# Altium footprint library L4.PcbLib: 7 footprints
Each footprint in its own frame and in the unit in brackets; x right, y up, seen from the top. Pads: shape width x height; smd on the part's side, far side on the other; paste and mask are expansions set on the pad; w line width, h text height; cw(c..) or ccw(c..) is an arc to the next point about the centre after c.
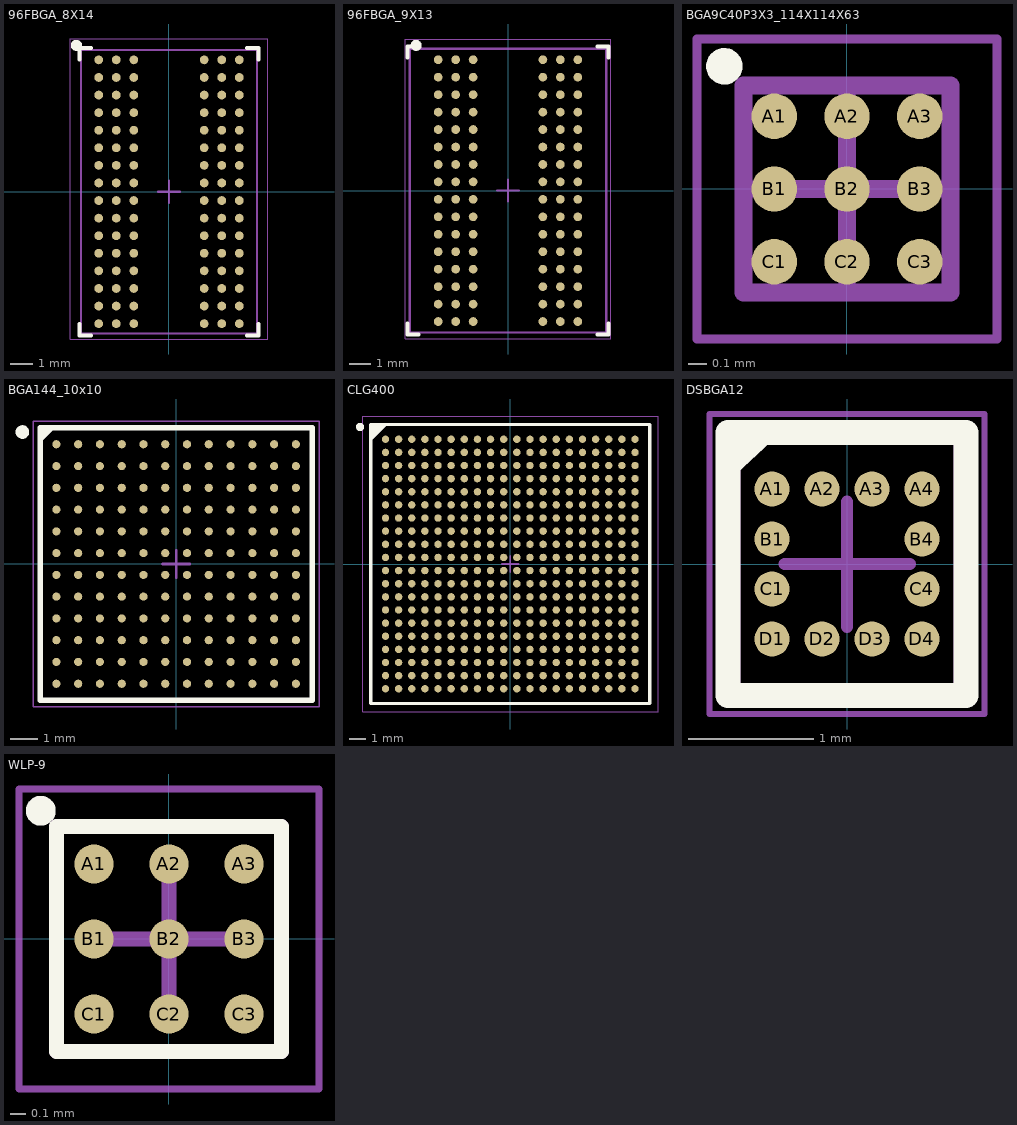
[diagram p0: the footprints below, top view; thin cyan lines are the x and y axes]

## 96FBGA_8X14 [mm] "BGA, 78-Balls, Body 8x10.5mm, Pitch 0.8mm"
pads (96):
  round 0.4 smd: A1(-3.2,6) A2(-2.4,6) A3(-1.6,6) A7(1.6,6) A8(2.4,6) A9(3.2,6) B1(-3.2,5.2) B2(-2.4,5.2) B3(-1.6,5.2) B7(1.6,5.2) B8(2.4,5.2) B9(3.2,5.2) C1(-3.2,4.4) C2(-2.4,4.4) C3(-1.6,4.4) C7(1.6,4.4) C8(2.4,4.4) C9(3.2,4.4) D1(-3.2,3.6) D2(-2.4,3.6) D3(-1.6,3.6) D7(1.6,3.6) D8(2.4,3.6) D9(3.2,3.6) E1(-3.2,2.8) E2(-2.4,2.8) E3(-1.6,2.8) E7(1.6,2.8) E8(2.4,2.8) E9(3.2,2.8) F1(-3.2,2) F2(-2.4,2) F3(-1.6,2) F7(1.6,2) F8(2.4,2) F9(3.2,2) G1(-3.2,1.2) G2(-2.4,1.2) G3(-1.6,1.2) G7(1.6,1.2) G8(2.4,1.2) G9(3.2,1.2) H1(-3.2,0.4) H2(-2.4,0.4) H3(-1.6,0.4) H7(1.6,0.4) H8(2.4,0.4) H9(3.2,0.4) J1(-3.2,-0.4) J2(-2.4,-0.4) J3(-1.6,-0.4) J7(1.6,-0.4) J8(2.4,-0.4) J9(3.2,-0.4) K1(-3.2,-1.2) K2(-2.4,-1.2) K3(-1.6,-1.2) K7(1.6,-1.2) K8(2.4,-1.2) K9(3.2,-1.2) L1(-3.2,-2) L2(-2.4,-2) L3(-1.6,-2) L7(1.6,-2) L8(2.4,-2) L9(3.2,-2) M1(-3.2,-2.8) M2(-2.4,-2.8) M3(-1.6,-2.8) M7(1.6,-2.8) M8(2.4,-2.8) M9(3.2,-2.8) N1(-3.2,-3.6) N2(-2.4,-3.6) N3(-1.6,-3.6) N7(1.6,-3.6) N8(2.4,-3.6) N9(3.2,-3.6) P1(-3.2,-4.4) P2(-2.4,-4.4) P3(-1.6,-4.4) P7(1.6,-4.4) P8(2.4,-4.4) P9(3.2,-4.4) R1(-3.2,-5.2) R2(-2.4,-5.2) R3(-1.6,-5.2) R7(1.6,-5.2) R8(2.4,-5.2) R9(3.2,-5.2) T1(-3.2,-6) T2(-2.4,-6) T3(-1.6,-6) T7(1.6,-6) T8(2.4,-6) T9(3.2,-6)
Top Overlay:
  circle w0.25: c-4.21,6.66 r0.125
  lines w0.178: -4.064,-6.026 -4.064,-6.534 -3.556,-6.534 ; -4.064,6.026 -4.064,6.534 -3.556,6.534 ; 3.556,-6.534 4.064,-6.534 4.064,-6.026 ; 3.556,6.534 4.064,6.534 4.064,6.026
Mechanical 13:
  lines w0.1: -4,-6.45 4,-6.45 4,6.45 -4,6.45 -4,-6.45
Mechanical 15:
  lines w0.05: -4.5,-6.7 -4.5,6.95 4.5,6.95 4.5,-6.7 -4.5,-6.7
  lines w0.1: -0.5,0 0.5,0 ; 0,-0.5 0,0.5
Mechanical 17:
  text "'.Designator'" at -3.6,-0.4 h0.64
3D body: height 0.38, standoff -0.02, extent -1.799,-6.197 -1.4,-5.803
3D body: height 0.38, standoff -0.02, extent -2.599,-6.197 -2.2,-5.803
3D body: height 0.38, standoff -0.02, extent -3.399,-6.197 -3,-5.803
3D body: height 0.38, standoff -0.02, extent 1.401,-6.197 1.8,-5.803
3D body: height 0.38, standoff -0.02, extent 2.201,-6.197 2.6,-5.803
3D body: height 0.38, standoff -0.02, extent 3.001,-6.197 3.4,-5.803
3D body: height 0.38, standoff -0.02, extent -1.799,-5.397 -1.4,-5.003
3D body: height 0.38, standoff -0.02, extent -2.599,-5.397 -2.2,-5.003
3D body: height 0.38, standoff -0.02, extent -3.399,-5.397 -3,-5.003
3D body: height 0.38, standoff -0.02, extent 1.401,-5.397 1.8,-5.003
3D body: height 0.38, standoff -0.02, extent 2.201,-5.397 2.6,-5.003
3D body: height 0.38, standoff -0.02, extent 3.001,-5.397 3.4,-5.003
3D body: height 0.38, standoff -0.02, extent -1.799,-4.597 -1.4,-4.203
3D body: height 0.38, standoff -0.02, extent -2.599,-4.597 -2.2,-4.203
3D body: height 0.38, standoff -0.02, extent -3.399,-4.597 -3,-4.203
3D body: height 0.38, standoff -0.02, extent 1.401,-4.597 1.8,-4.203
3D body: height 0.38, standoff -0.02, extent 2.201,-4.597 2.6,-4.203
3D body: height 0.38, standoff -0.02, extent 3.001,-4.597 3.4,-4.203
3D body: height 0.38, standoff -0.02, extent 3.001,-3.797 3.4,-3.403
3D body: height 0.38, standoff -0.02, extent 2.201,-3.797 2.6,-3.403
3D body: height 0.38, standoff -0.02, extent 1.401,-3.797 1.8,-3.403
3D body: height 0.38, standoff -0.02, extent -3.399,-3.797 -3,-3.403
3D body: height 0.38, standoff -0.02, extent -2.599,-3.797 -2.2,-3.403
3D body: height 0.38, standoff -0.02, extent -1.799,-3.797 -1.4,-3.403
3D body: height 0.38, standoff -0.02, extent 3.001,-2.997 3.4,-2.603
3D body: height 0.38, standoff -0.02, extent 2.201,-2.997 2.6,-2.603
3D body: height 0.38, standoff -0.02, extent 1.401,-2.997 1.8,-2.603
3D body: height 0.38, standoff -0.02, extent -3.399,-2.997 -3,-2.603
3D body: height 0.38, standoff -0.02, extent -2.599,-2.997 -2.2,-2.603
3D body: height 0.38, standoff -0.02, extent -1.799,-2.997 -1.4,-2.603
3D body: height 0.38, standoff -0.02, extent 3.001,-2.197 3.4,-1.803
3D body: height 0.38, standoff -0.02, extent 2.201,-2.197 2.6,-1.803
3D body: height 0.38, standoff -0.02, extent 1.401,-2.197 1.8,-1.803
3D body: height 0.38, standoff -0.02, extent -3.399,-2.197 -3,-1.803
3D body: height 0.38, standoff -0.02, extent -2.599,-2.197 -2.2,-1.803
3D body: height 0.38, standoff -0.02, extent -1.799,-2.197 -1.4,-1.803
3D body: height 0.38, standoff -0.02, extent 3.001,-1.397 3.4,-1.003
3D body: height 0.38, standoff -0.02, extent 2.201,-1.397 2.6,-1.003
3D body: height 0.38, standoff -0.02, extent 1.401,-1.397 1.8,-1.003
3D body: height 0.38, standoff -0.02, extent -3.399,-1.397 -3,-1.003
3D body: height 0.38, standoff -0.02, extent -2.599,-1.397 -2.2,-1.003
3D body: height 0.38, standoff -0.02, extent -1.799,-1.397 -1.4,-1.003
3D body: height 0.38, standoff -0.02, extent 3.001,5.803 3.4,6.197
3D body: height 0.38, standoff -0.02, extent 2.201,5.803 2.6,6.197
3D body: height 0.38, standoff -0.02, extent 1.401,5.803 1.8,6.197
3D body: height 0.38, standoff -0.02, extent -3.399,5.803 -3,6.197
3D body: height 0.38, standoff -0.02, extent -2.599,5.803 -2.2,6.197
3D body: height 0.38, standoff -0.02, extent -1.799,5.803 -1.4,6.197
3D body: height 0.38, standoff -0.02, extent -1.799,5.003 -1.4,5.397
3D body: height 0.38, standoff -0.02, extent -2.599,5.003 -2.2,5.397
3D body: height 0.38, standoff -0.02, extent -3.399,5.003 -3,5.397
3D body: height 0.38, standoff -0.02, extent 1.401,5.003 1.8,5.397
3D body: height 0.38, standoff -0.02, extent 2.201,5.003 2.6,5.397
3D body: height 0.38, standoff -0.02, extent 3.001,5.003 3.4,5.397
3D body: height 0.38, standoff -0.02, extent -1.799,4.203 -1.4,4.597
3D body: height 0.38, standoff -0.02, extent -2.599,4.203 -2.2,4.597
3D body: height 0.38, standoff -0.02, extent -3.399,4.203 -3,4.597
3D body: height 0.38, standoff -0.02, extent 1.401,4.203 1.8,4.597
3D body: height 0.38, standoff -0.02, extent 2.201,4.203 2.6,4.597
3D body: height 0.38, standoff -0.02, extent 3.001,4.203 3.4,4.597
3D body: height 0.38, standoff -0.02, extent -1.799,3.403 -1.4,3.797
3D body: height 0.38, standoff -0.02, extent -2.599,3.403 -2.2,3.797
3D body: height 0.38, standoff -0.02, extent -3.399,3.403 -3,3.797
3D body: height 0.38, standoff -0.02, extent 1.401,3.403 1.8,3.797
3D body: height 0.38, standoff -0.02, extent 2.201,3.403 2.6,3.797
3D body: height 0.38, standoff -0.02, extent 3.001,3.403 3.4,3.797
3D body: height 0.38, standoff -0.02, extent -1.799,2.603 -1.4,2.997
3D body: height 0.38, standoff -0.02, extent -2.599,2.603 -2.2,2.997
3D body: height 0.38, standoff -0.02, extent -3.399,2.603 -3,2.997
3D body: height 0.38, standoff -0.02, extent 1.401,2.603 1.8,2.997
3D body: height 0.38, standoff -0.02, extent 2.201,2.603 2.6,2.997
3D body: height 0.38, standoff -0.02, extent 3.001,2.603 3.4,2.997
3D body: height 0.38, standoff -0.02, extent -1.799,1.803 -1.4,2.197
3D body: height 0.38, standoff -0.02, extent -2.599,1.803 -2.2,2.197
3D body: height 0.38, standoff -0.02, extent -3.399,1.803 -3,2.197
3D body: height 0.38, standoff -0.02, extent 1.401,1.803 1.8,2.197
3D body: height 0.38, standoff -0.02, extent 2.201,1.803 2.6,2.197
3D body: height 0.38, standoff -0.02, extent 3.001,1.803 3.4,2.197
3D body: height 0.38, standoff -0.02, extent -1.799,1.003 -1.4,1.397
3D body: height 0.38, standoff -0.02, extent -2.599,1.003 -2.2,1.397
3D body: height 0.38, standoff -0.02, extent -3.399,1.003 -3,1.397
3D body: height 0.38, standoff -0.02, extent 1.401,1.003 1.8,1.397
3D body: height 0.38, standoff -0.02, extent 2.201,1.003 2.6,1.397
3D body: height 0.38, standoff -0.02, extent 3.001,1.003 3.4,1.397
3D body: height 0.38, standoff -0.02, extent -1.799,0.203 -1.4,0.597
3D body: height 0.38, standoff -0.02, extent -2.599,0.203 -2.2,0.597
3D body: height 0.38, standoff -0.02, extent -3.399,0.203 -3,0.597
3D body: height 0.38, standoff -0.02, extent 1.401,0.203 1.8,0.597
3D body: height 0.38, standoff -0.02, extent 2.201,0.203 2.6,0.597
3D body: height 0.38, standoff -0.02, extent 3.001,0.203 3.4,0.597
3D body: height 0.38, standoff -0.02, extent -1.799,-0.597 -1.4,-0.203
3D body: height 0.38, standoff -0.02, extent -2.599,-0.597 -2.2,-0.203
3D body: height 0.38, standoff -0.02, extent -3.399,-0.597 -3,-0.203
3D body: height 0.38, standoff -0.02, extent 1.401,-0.597 1.8,-0.203
3D body: height 0.38, standoff -0.02, extent 2.201,-0.597 2.6,-0.203
3D body: height 0.38, standoff -0.02, extent 3.001,-0.597 3.4,-0.203
3D body: height 1.1, standoff 0.34, extent -4,-6.45 4,6.45

## 96FBGA_9X13 [mm] "BGA, 78-Balls, Body 8x10.5mm, Pitch 0.8mm"
pads (96):
  round 0.4 smd: A1(-3.2,6) A2(-2.4,6) A3(-1.6,6) A7(1.6,6) A8(2.4,6) A9(3.2,6) B1(-3.2,5.2) B2(-2.4,5.2) B3(-1.6,5.2) B7(1.6,5.2) B8(2.4,5.2) B9(3.2,5.2) C1(-3.2,4.4) C2(-2.4,4.4) C3(-1.6,4.4) C7(1.6,4.4) C8(2.4,4.4) C9(3.2,4.4) D1(-3.2,3.6) D2(-2.4,3.6) D3(-1.6,3.6) D7(1.6,3.6) D8(2.4,3.6) D9(3.2,3.6) E1(-3.2,2.8) E2(-2.4,2.8) E3(-1.6,2.8) E7(1.6,2.8) E8(2.4,2.8) E9(3.2,2.8) F1(-3.2,2) F2(-2.4,2) F3(-1.6,2) F7(1.6,2) F8(2.4,2) F9(3.2,2) G1(-3.2,1.2) G2(-2.4,1.2) G3(-1.6,1.2) G7(1.6,1.2) G8(2.4,1.2) G9(3.2,1.2) H1(-3.2,0.4) H2(-2.4,0.4) H3(-1.6,0.4) H7(1.6,0.4) H8(2.4,0.4) H9(3.2,0.4) J1(-3.2,-0.4) J2(-2.4,-0.4) J3(-1.6,-0.4) J7(1.6,-0.4) J8(2.4,-0.4) J9(3.2,-0.4) K1(-3.2,-1.2) K2(-2.4,-1.2) K3(-1.6,-1.2) K7(1.6,-1.2) K8(2.4,-1.2) K9(3.2,-1.2) L1(-3.2,-2) L2(-2.4,-2) L3(-1.6,-2) L7(1.6,-2) L8(2.4,-2) L9(3.2,-2) M1(-3.2,-2.8) M2(-2.4,-2.8) M3(-1.6,-2.8) M7(1.6,-2.8) M8(2.4,-2.8) M9(3.2,-2.8) N1(-3.2,-3.6) N2(-2.4,-3.6) N3(-1.6,-3.6) N7(1.6,-3.6) N8(2.4,-3.6) N9(3.2,-3.6) P1(-3.2,-4.4) P2(-2.4,-4.4) P3(-1.6,-4.4) P7(1.6,-4.4) P8(2.4,-4.4) P9(3.2,-4.4) R1(-3.2,-5.2) R2(-2.4,-5.2) R3(-1.6,-5.2) R7(1.6,-5.2) R8(2.4,-5.2) R9(3.2,-5.2) T1(-3.2,-6) T2(-2.4,-6) T3(-1.6,-6) T7(1.6,-6) T8(2.4,-6) T9(3.2,-6)
Top Overlay:
  circle w0.25: c-4.21,6.66 r0.125
  lines w0.178: -4.6,-6.092 -4.6,-6.6 -4.092,-6.6 ; -4.6,6.092 -4.6,6.6 -4.092,6.6 ; 4.092,-6.6 4.6,-6.6 4.6,-6.092 ; 4.092,6.6 4.6,6.6 4.6,6.092
Mechanical 13:
  lines w0.1: -4.5,-6.5 -4.5,6.5 4.5,6.5 4.5,-6.5 -4.5,-6.5
Mechanical 15:
  lines w0.05: -4.7,-6.8 -4.7,6.95 4.7,6.95 4.7,-6.8 -4.7,-6.8
  lines w0.1: -0.5,0 0.5,0 ; 0,-0.5 0,0.5
Mechanical 17:
  text "'.Designator'" at -3.6,-0.4 h0.64
Mechanical 19:
  text "'.Comment'" at -3.15,-0.4 h0.64
3D body: height 0.38, standoff -0.02, extent -1.799,-6.197 -1.4,-5.803
3D body: height 0.38, standoff -0.02, extent -2.599,-6.197 -2.2,-5.803
3D body: height 0.38, standoff -0.02, extent -3.399,-6.197 -3,-5.803
3D body: height 0.38, standoff -0.02, extent 1.401,-6.197 1.8,-5.803
3D body: height 0.38, standoff -0.02, extent 2.201,-6.197 2.6,-5.803
3D body: height 0.38, standoff -0.02, extent 3.001,-6.197 3.4,-5.803
3D body: height 0.38, standoff -0.02, extent -1.799,-5.397 -1.4,-5.003
3D body: height 0.38, standoff -0.02, extent -2.599,-5.397 -2.2,-5.003
3D body: height 0.38, standoff -0.02, extent -3.399,-5.397 -3,-5.003
3D body: height 0.38, standoff -0.02, extent 1.401,-5.397 1.8,-5.003
3D body: height 0.38, standoff -0.02, extent 2.201,-5.397 2.6,-5.003
3D body: height 0.38, standoff -0.02, extent 3.001,-5.397 3.4,-5.003
3D body: height 0.38, standoff -0.02, extent -1.799,-4.597 -1.4,-4.203
3D body: height 0.38, standoff -0.02, extent -2.599,-4.597 -2.2,-4.203
3D body: height 0.38, standoff -0.02, extent -3.399,-4.597 -3,-4.203
3D body: height 0.38, standoff -0.02, extent 1.401,-4.597 1.8,-4.203
3D body: height 0.38, standoff -0.02, extent 2.201,-4.597 2.6,-4.203
3D body: height 0.38, standoff -0.02, extent 3.001,-4.597 3.4,-4.203
3D body: height 0.38, standoff -0.02, extent 3.001,-3.797 3.4,-3.403
3D body: height 0.38, standoff -0.02, extent 2.201,-3.797 2.6,-3.403
3D body: height 0.38, standoff -0.02, extent 1.401,-3.797 1.8,-3.403
3D body: height 0.38, standoff -0.02, extent -3.399,-3.797 -3,-3.403
3D body: height 0.38, standoff -0.02, extent -2.599,-3.797 -2.2,-3.403
3D body: height 0.38, standoff -0.02, extent -1.799,-3.797 -1.4,-3.403
3D body: height 0.38, standoff -0.02, extent 3.001,-2.997 3.4,-2.603
3D body: height 0.38, standoff -0.02, extent 2.201,-2.997 2.6,-2.603
3D body: height 0.38, standoff -0.02, extent 1.401,-2.997 1.8,-2.603
3D body: height 0.38, standoff -0.02, extent -3.399,-2.997 -3,-2.603
3D body: height 0.38, standoff -0.02, extent -2.599,-2.997 -2.2,-2.603
3D body: height 0.38, standoff -0.02, extent -1.799,-2.997 -1.4,-2.603
3D body: height 0.38, standoff -0.02, extent 3.001,-2.197 3.4,-1.803
3D body: height 0.38, standoff -0.02, extent 2.201,-2.197 2.6,-1.803
3D body: height 0.38, standoff -0.02, extent 1.401,-2.197 1.8,-1.803
3D body: height 0.38, standoff -0.02, extent -3.399,-2.197 -3,-1.803
3D body: height 0.38, standoff -0.02, extent -2.599,-2.197 -2.2,-1.803
3D body: height 0.38, standoff -0.02, extent -1.799,-2.197 -1.4,-1.803
3D body: height 0.38, standoff -0.02, extent 3.001,-1.397 3.4,-1.003
3D body: height 0.38, standoff -0.02, extent 2.201,-1.397 2.6,-1.003
3D body: height 0.38, standoff -0.02, extent 1.401,-1.397 1.8,-1.003
3D body: height 0.38, standoff -0.02, extent -3.399,-1.397 -3,-1.003
3D body: height 0.38, standoff -0.02, extent -2.599,-1.397 -2.2,-1.003
3D body: height 0.38, standoff -0.02, extent -1.799,-1.397 -1.4,-1.003
3D body: height 0.38, standoff -0.02, extent 3.001,5.803 3.4,6.197
3D body: height 0.38, standoff -0.02, extent 2.201,5.803 2.6,6.197
3D body: height 0.38, standoff -0.02, extent 1.401,5.803 1.8,6.197
3D body: height 0.38, standoff -0.02, extent -3.399,5.803 -3,6.197
3D body: height 0.38, standoff -0.02, extent -2.599,5.803 -2.2,6.197
3D body: height 0.38, standoff -0.02, extent -1.799,5.803 -1.4,6.197
3D body: height 0.38, standoff -0.02, extent -1.799,5.003 -1.4,5.397
3D body: height 0.38, standoff -0.02, extent -2.599,5.003 -2.2,5.397
3D body: height 0.38, standoff -0.02, extent -3.399,5.003 -3,5.397
3D body: height 0.38, standoff -0.02, extent 1.401,5.003 1.8,5.397
3D body: height 0.38, standoff -0.02, extent 2.201,5.003 2.6,5.397
3D body: height 0.38, standoff -0.02, extent 3.001,5.003 3.4,5.397
3D body: height 0.38, standoff -0.02, extent -1.799,4.203 -1.4,4.597
3D body: height 0.38, standoff -0.02, extent -2.599,4.203 -2.2,4.597
3D body: height 0.38, standoff -0.02, extent -3.399,4.203 -3,4.597
3D body: height 0.38, standoff -0.02, extent 1.401,4.203 1.8,4.597
3D body: height 0.38, standoff -0.02, extent 2.201,4.203 2.6,4.597
3D body: height 0.38, standoff -0.02, extent 3.001,4.203 3.4,4.597
3D body: height 0.38, standoff -0.02, extent -1.799,3.403 -1.4,3.797
3D body: height 0.38, standoff -0.02, extent -2.599,3.403 -2.2,3.797
3D body: height 0.38, standoff -0.02, extent -3.399,3.403 -3,3.797
3D body: height 0.38, standoff -0.02, extent 1.401,3.403 1.8,3.797
3D body: height 0.38, standoff -0.02, extent 2.201,3.403 2.6,3.797
3D body: height 0.38, standoff -0.02, extent 3.001,3.403 3.4,3.797
3D body: height 0.38, standoff -0.02, extent -1.799,2.603 -1.4,2.997
3D body: height 0.38, standoff -0.02, extent -2.599,2.603 -2.2,2.997
3D body: height 0.38, standoff -0.02, extent -3.399,2.603 -3,2.997
3D body: height 0.38, standoff -0.02, extent 1.401,2.603 1.8,2.997
3D body: height 0.38, standoff -0.02, extent 2.201,2.603 2.6,2.997
3D body: height 0.38, standoff -0.02, extent 3.001,2.603 3.4,2.997
3D body: height 0.38, standoff -0.02, extent -1.799,1.803 -1.4,2.197
3D body: height 0.38, standoff -0.02, extent -2.599,1.803 -2.2,2.197
3D body: height 0.38, standoff -0.02, extent -3.399,1.803 -3,2.197
3D body: height 0.38, standoff -0.02, extent 1.401,1.803 1.8,2.197
3D body: height 0.38, standoff -0.02, extent 2.201,1.803 2.6,2.197
3D body: height 0.38, standoff -0.02, extent 3.001,1.803 3.4,2.197
3D body: height 0.38, standoff -0.02, extent -1.799,1.003 -1.4,1.397
3D body: height 0.38, standoff -0.02, extent -2.599,1.003 -2.2,1.397
3D body: height 0.38, standoff -0.02, extent -3.399,1.003 -3,1.397
3D body: height 0.38, standoff -0.02, extent 1.401,1.003 1.8,1.397
3D body: height 0.38, standoff -0.02, extent 2.201,1.003 2.6,1.397
3D body: height 0.38, standoff -0.02, extent 3.001,1.003 3.4,1.397
3D body: height 0.38, standoff -0.02, extent -1.799,0.203 -1.4,0.597
3D body: height 0.38, standoff -0.02, extent -2.599,0.203 -2.2,0.597
3D body: height 0.38, standoff -0.02, extent -3.399,0.203 -3,0.597
3D body: height 0.38, standoff -0.02, extent 1.401,0.203 1.8,0.597
3D body: height 0.38, standoff -0.02, extent 2.201,0.203 2.6,0.597
3D body: height 0.38, standoff -0.02, extent 3.001,0.203 3.4,0.597
3D body: height 0.38, standoff -0.02, extent -1.799,-0.597 -1.4,-0.203
3D body: height 0.38, standoff -0.02, extent -2.599,-0.597 -2.2,-0.203
3D body: height 0.38, standoff -0.02, extent -3.399,-0.597 -3,-0.203
3D body: height 0.38, standoff -0.02, extent 1.401,-0.597 1.8,-0.203
3D body: height 0.38, standoff -0.02, extent 2.201,-0.597 2.6,-0.203
3D body: height 0.38, standoff -0.02, extent 3.001,-0.597 3.4,-0.203
3D body "User Library-BGA96C80P9X16_900X1300X120.step": height 1.2, standoff 0, extent -4.5,-6.5 4.5,6.5

## BGA9C40P3X3_114X114X63 [mm] "BGA, 9-Leads, Body 1.14x1.14mmx0.63mm, Pitch 0.40mm WLCSP9"
height 0.63
pads (9):
  round 0.25 smd mask+0.05: A1(-0.4,0.4) A2(0,0.4) A3(0.4,0.4) B1(-0.4,0) B2(0,0) B3(0.4,0) C1(-0.4,-0.4) C2(0,-0.4) C3(0.4,-0.4)
Top Overlay:
  circle w0.1: c-0.675,0.675 r0.05
Mechanical 2:
  lines w0.1: -0.57,-0.57 0.57,-0.57 0.57,0.57 -0.57,0.57 -0.57,-0.57
Mechanical 4:
  lines w0.05: -0.825,-0.825 0.825,-0.825 0.825,0.825 -0.825,0.825 -0.825,-0.825
  lines w0.1: -0.5,0 0.5,0 ; 0,-0.5 0,0.5
3D body "BGA9C40P3X3_114X114X63.step": height 0.61, standoff -0.02, extent -0.57,-0.57 0.57,0.57

## BGA144_10x10 [mm] "BGA, 144-Leads, Body 10,00x10,00mmx1,70mm, Pitch 0,80mm"
height 1.7
pads (144):
  round 0.3 smd: A1(-4.4,4.4) A2(-3.6,4.4) A3(-2.8,4.4) A4(-2,4.4) A5(-1.2,4.4) A6(-0.4,4.4) A7(0.4,4.4) A8(1.2,4.4) A9(2,4.4) A10(2.8,4.4) A11(3.6,4.4) A12(4.4,4.4) B1(-4.4,3.6) B2(-3.6,3.6) B3(-2.8,3.6) B4(-2,3.6) B5(-1.2,3.6) B6(-0.4,3.6) B7(0.4,3.6) B8(1.2,3.6) B9(2,3.6) B10(2.8,3.6) B11(3.6,3.6) B12(4.4,3.6) C1(-4.4,2.8) C2(-3.6,2.8) C3(-2.8,2.8) C4(-2,2.8) C5(-1.2,2.8) C6(-0.4,2.8) C7(0.4,2.8) C8(1.2,2.8) C9(2,2.8) C10(2.8,2.8) C11(3.6,2.8) C12(4.4,2.8) D1(-4.4,2) D2(-3.6,2) D3(-2.8,2) D4(-2,2) D5(-1.2,2) D6(-0.4,2) D7(0.4,2) D8(1.2,2) D9(2,2) D10(2.8,2) D11(3.6,2) D12(4.4,2) E1(-4.4,1.2) E2(-3.6,1.2) E3(-2.8,1.2) E4(-2,1.2) E5(-1.2,1.2) E6(-0.4,1.2) E7(0.4,1.2) E8(1.2,1.2) E9(2,1.2) E10(2.8,1.2) E11(3.6,1.2) E12(4.4,1.2) F1(-4.4,0.4) F2(-3.6,0.4) F3(-2.8,0.4) F4(-2,0.4) F5(-1.2,0.4) F6(-0.4,0.4) F7(0.4,0.4) F8(1.2,0.4) F9(2,0.4) F10(2.8,0.4) F11(3.6,0.4) F12(4.4,0.4) G1(-4.4,-0.4) G2(-3.6,-0.4) G3(-2.8,-0.4) G4(-2,-0.4) G5(-1.2,-0.4) G6(-0.4,-0.4) G7(0.4,-0.4) G8(1.2,-0.4) G9(2,-0.4) G10(2.8,-0.4) G11(3.6,-0.4) G12(4.4,-0.4) H1(-4.4,-1.2) H2(-3.6,-1.2) H3(-2.8,-1.2) H4(-2,-1.2) H5(-1.2,-1.2) H6(-0.4,-1.2) H7(0.4,-1.2) H8(1.2,-1.2) H9(2,-1.2) H10(2.8,-1.2) H11(3.6,-1.2) H12(4.4,-1.2) J1(-4.4,-2) J2(-3.6,-2) J3(-2.8,-2) J4(-2,-2) J5(-1.2,-2) J6(-0.4,-2) J7(0.4,-2) J8(1.2,-2) J9(2,-2) J10(2.8,-2) J11(3.6,-2) J12(4.4,-2) K1(-4.4,-2.8) K2(-3.6,-2.8) K3(-2.8,-2.8) K4(-2,-2.8) K5(-1.2,-2.8) K6(-0.4,-2.8) K7(0.4,-2.8) K8(1.2,-2.8) K9(2,-2.8) K10(2.8,-2.8) K11(3.6,-2.8) K12(4.4,-2.8) L1(-4.4,-3.6) L2(-3.6,-3.6) L3(-2.8,-3.6) L4(-2,-3.6) L5(-1.2,-3.6) L6(-0.4,-3.6) L7(0.4,-3.6) L8(1.2,-3.6) L9(2,-3.6) L10(2.8,-3.6) L11(3.6,-3.6) L12(4.4,-3.6) M1(-4.4,-4.4) M2(-3.6,-4.4) M3(-2.8,-4.4) M4(-2,-4.4) M5(-1.2,-4.4) M6(-0.4,-4.4) M7(0.4,-4.4) M8(1.2,-4.4) M9(2,-4.4) M10(2.8,-4.4) M11(3.6,-4.4) M12(4.4,-4.4)
Top Overlay:
  circle w0.25: c-5.65,4.85 r0.125
  region: -4.578,5 -5,4.578 -5,5
  lines w0.2: -5,4.578 -4.578,5 ; -5,-5 5,-5 5,5 -5,5 -5,-5
Mechanical 13:
  lines w0.1: -5,-5 5,-5 5,5 -5,5 -5,-5
Mechanical 15:
  lines w0.05: -5.25,-5.25 5.25,-5.25 5.25,5.25 -5.25,5.25 -5.25,-5.25
  lines w0.1: -0.5,0 0.5,0 ; 0,-0.5 0,0.5
3D body "User Library-BGA 144.step": height 1.22, standoff -0.03, extent -5,-5 5,5

## CLG400 [mm] "BGA, 400-Balls, Body 17x17mm, Pitch 0.8mm"
height 1.6
pads (400):
  round 0.45 smd: A1(-7.6,7.6) A2(-6.8,7.6) A3(-6,7.6) A4(-5.2,7.6) A5(-4.4,7.6) A6(-3.6,7.6) A7(-2.8,7.6) A8(-2,7.6) A9(-1.2,7.6) A10(-0.4,7.6) A11(0.4,7.6) A12(1.2,7.6) A13(2,7.6) A14(2.8,7.6) A15(3.6,7.6) A16(4.4,7.6) A17(5.2,7.6) A18(6,7.6) A19(6.8,7.6) A20(7.6,7.6) B1(-7.6,6.8) B2(-6.8,6.8) B3(-6,6.8) B4(-5.2,6.8) B5(-4.4,6.8) B6(-3.6,6.8) B7(-2.8,6.8) B8(-2,6.8) B9(-1.2,6.8) B10(-0.4,6.8) B11(0.4,6.8) B12(1.2,6.8) B13(2,6.8) B14(2.8,6.8) B15(3.6,6.8) B16(4.4,6.8) B17(5.2,6.8) B18(6,6.8) B19(6.8,6.8) B20(7.6,6.8) C1(-7.6,6) C2(-6.8,6) C3(-6,6) C4(-5.2,6) C5(-4.4,6) C6(-3.6,6) C7(-2.8,6) C8(-2,6) C9(-1.2,6) C10(-0.4,6) C11(0.4,6) C12(1.2,6) C13(2,6) C14(2.8,6) C15(3.6,6) C16(4.4,6) C17(5.2,6) C18(6,6) C19(6.8,6) C20(7.6,6) D1(-7.6,5.2) D2(-6.8,5.2) D3(-6,5.2) D4(-5.2,5.2) D5(-4.4,5.2) D6(-3.6,5.2) D7(-2.8,5.2) D8(-2,5.2) D9(-1.2,5.2) D10(-0.4,5.2) D11(0.4,5.2) D12(1.2,5.2) D13(2,5.2) D14(2.8,5.2) D15(3.6,5.2) D16(4.4,5.2) D17(5.2,5.2) D18(6,5.2) D19(6.8,5.2) D20(7.6,5.2) E1(-7.6,4.4) E2(-6.8,4.4) E3(-6,4.4) E4(-5.2,4.4) E5(-4.4,4.4) E6(-3.6,4.4) E7(-2.8,4.4) E8(-2,4.4) E9(-1.2,4.4) E10(-0.4,4.4) E11(0.4,4.4) E12(1.2,4.4) E13(2,4.4) E14(2.8,4.4) E15(3.6,4.4) E16(4.4,4.4) E17(5.2,4.4) E18(6,4.4) E19(6.8,4.4) E20(7.6,4.4) F1(-7.6,3.6) F2(-6.8,3.6) F3(-6,3.6) F4(-5.2,3.6) F5(-4.4,3.6) F6(-3.6,3.6) F7(-2.8,3.6) F8(-2,3.6) F9(-1.2,3.6) F10(-0.4,3.6) F11(0.4,3.6) F12(1.2,3.6) F13(2,3.6) F14(2.8,3.6) F15(3.6,3.6) F16(4.4,3.6) F17(5.2,3.6) F18(6,3.6) F19(6.8,3.6) F20(7.6,3.6) G1(-7.6,2.8) G2(-6.8,2.8) G3(-6,2.8) G4(-5.2,2.8) G5(-4.4,2.8) G6(-3.6,2.8) G7(-2.8,2.8) G8(-2,2.8) G9(-1.2,2.8) G10(-0.4,2.8) G11(0.4,2.8) G12(1.2,2.8) G13(2,2.8) G14(2.8,2.8) G15(3.6,2.8) G16(4.4,2.8) G17(5.2,2.8) G18(6,2.8) G19(6.8,2.8) G20(7.6,2.8) H1(-7.6,2) H2(-6.8,2) H3(-6,2) H4(-5.2,2) H5(-4.4,2) H6(-3.6,2) H7(-2.8,2) H8(-2,2) H9(-1.2,2) H10(-0.4,2) H11(0.4,2) H12(1.2,2) H13(2,2) H14(2.8,2) H15(3.6,2) H16(4.4,2) H17(5.2,2) H18(6,2) H19(6.8,2) H20(7.6,2) J1(-7.6,1.2) J2(-6.8,1.2) J3(-6,1.2) J4(-5.2,1.2) J5(-4.4,1.2) J6(-3.6,1.2) J7(-2.8,1.2) J8(-2,1.2) J9(-1.2,1.2) J10(-0.4,1.2) J11(0.4,1.2) J12(1.2,1.2) J13(2,1.2) J14(2.8,1.2) J15(3.6,1.2) J16(4.4,1.2) J17(5.2,1.2) J18(6,1.2) J19(6.8,1.2) J20(7.6,1.2) K1(-7.6,0.4) K2(-6.8,0.4) K3(-6,0.4) K4(-5.2,0.4) K5(-4.4,0.4) K6(-3.6,0.4) K7(-2.8,0.4) K8(-2,0.4) K9(-1.2,0.4) K10(-0.4,0.4) K11(0.4,0.4) K12(1.2,0.4) K13(2,0.4) K14(2.8,0.4) K15(3.6,0.4) K16(4.4,0.4) K17(5.2,0.4) K18(6,0.4) K19(6.8,0.4) K20(7.6,0.4) L1(-7.6,-0.4) L2(-6.8,-0.4) L3(-6,-0.4) L4(-5.2,-0.4) L5(-4.4,-0.4) L6(-3.6,-0.4) L7(-2.8,-0.4) L8(-2,-0.4) L9(-1.2,-0.4) L10(-0.4,-0.4) L11(0.4,-0.4) L12(1.2,-0.4) L13(2,-0.4) L14(2.8,-0.4) L15(3.6,-0.4) L16(4.4,-0.4) L17(5.2,-0.4) L18(6,-0.4) L19(6.8,-0.4) L20(7.6,-0.4) M1(-7.6,-1.2) M2(-6.8,-1.2) M3(-6,-1.2) M4(-5.2,-1.2) M5(-4.4,-1.2) M6(-3.6,-1.2) M7(-2.8,-1.2) M8(-2,-1.2) M9(-1.2,-1.2) M10(-0.4,-1.2) M11(0.4,-1.2) M12(1.2,-1.2) M13(2,-1.2) M14(2.8,-1.2) M15(3.6,-1.2) M16(4.4,-1.2) M17(5.2,-1.2) M18(6,-1.2) M19(6.8,-1.2) M20(7.6,-1.2) N1(-7.6,-2) N2(-6.8,-2) N3(-6,-2) N4(-5.2,-2) N5(-4.4,-2) N6(-3.6,-2) N7(-2.8,-2) N8(-2,-2) N9(-1.2,-2) N10(-0.4,-2) N11(0.4,-2) N12(1.2,-2) N13(2,-2) N14(2.8,-2) N15(3.6,-2) N16(4.4,-2) N17(5.2,-2) N18(6,-2) N19(6.8,-2) N20(7.6,-2) P1(-7.6,-2.8) P2(-6.8,-2.8) P3(-6,-2.8) P4(-5.2,-2.8) P5(-4.4,-2.8) P6(-3.6,-2.8) P7(-2.8,-2.8) P8(-2,-2.8) P9(-1.2,-2.8) P10(-0.4,-2.8) P11(0.4,-2.8) P12(1.2,-2.8) P13(2,-2.8) P14(2.8,-2.8) P15(3.6,-2.8) P16(4.4,-2.8) P17(5.2,-2.8) P18(6,-2.8) P19(6.8,-2.8) P20(7.6,-2.8) R1(-7.6,-3.6) R2(-6.8,-3.6) R3(-6,-3.6) R4(-5.2,-3.6) R5(-4.4,-3.6) R6(-3.6,-3.6) R7(-2.8,-3.6) R8(-2,-3.6) R9(-1.2,-3.6) R10(-0.4,-3.6) R11(0.4,-3.6) R12(1.2,-3.6) R13(2,-3.6) R14(2.8,-3.6) R15(3.6,-3.6) R16(4.4,-3.6) R17(5.2,-3.6) R18(6,-3.6) R19(6.8,-3.6) R20(7.6,-3.6) T1(-7.6,-4.4) T2(-6.8,-4.4) T3(-6,-4.4) T4(-5.2,-4.4) T5(-4.4,-4.4) T6(-3.6,-4.4) T7(-2.8,-4.4) T8(-2,-4.4) T9(-1.2,-4.4) T10(-0.4,-4.4) T11(0.4,-4.4) T12(1.2,-4.4) T13(2,-4.4) T14(2.8,-4.4) T15(3.6,-4.4) T16(4.4,-4.4) T17(5.2,-4.4) T18(6,-4.4) T19(6.8,-4.4) T20(7.6,-4.4) U1(-7.6,-5.2) U2(-6.8,-5.2) U3(-6,-5.2) U4(-5.2,-5.2) U5(-4.4,-5.2) U6(-3.6,-5.2) U7(-2.8,-5.2) U8(-2,-5.2) U9(-1.2,-5.2) U10(-0.4,-5.2) U11(0.4,-5.2) U12(1.2,-5.2) U13(2,-5.2) U14(2.8,-5.2) U15(3.6,-5.2) U16(4.4,-5.2) U17(5.2,-5.2) U18(6,-5.2) U19(6.8,-5.2) U20(7.6,-5.2) V1(-7.6,-6) V2(-6.8,-6) V3(-6,-6) V4(-5.2,-6) V5(-4.4,-6) V6(-3.6,-6) V7(-2.8,-6) V8(-2,-6) V9(-1.2,-6) V10(-0.4,-6) V11(0.4,-6) V12(1.2,-6) V13(2,-6) V14(2.8,-6) V15(3.6,-6) V16(4.4,-6) V17(5.2,-6) V18(6,-6) V19(6.8,-6) V20(7.6,-6) W1(-7.6,-6.8) W2(-6.8,-6.8) W3(-6,-6.8) W4(-5.2,-6.8) W5(-4.4,-6.8) W6(-3.6,-6.8) W7(-2.8,-6.8) W8(-2,-6.8) W9(-1.2,-6.8) W10(-0.4,-6.8) W11(0.4,-6.8) W12(1.2,-6.8) W13(2,-6.8) W14(2.8,-6.8) W15(3.6,-6.8) W16(4.4,-6.8) W17(5.2,-6.8) W18(6,-6.8) W19(6.8,-6.8) W20(7.6,-6.8) Y1(-7.6,-7.6) Y2(-6.8,-7.6) Y3(-6,-7.6) Y4(-5.2,-7.6) Y5(-4.4,-7.6) Y6(-3.6,-7.6) Y7(-2.8,-7.6) Y8(-2,-7.6) Y9(-1.2,-7.6) Y10(-0.4,-7.6) Y11(0.4,-7.6) Y12(1.2,-7.6) Y13(2,-7.6) Y14(2.8,-7.6) Y15(3.6,-7.6) Y16(4.4,-7.6) Y17(5.2,-7.6) Y18(6,-7.6) Y19(6.8,-7.6) Y20(7.6,-7.6)
Top Overlay:
  circle w0.25: c-9.15,8.35 r0.125
  region: -7.584,8.5 -8.5,7.584 -8.5,8.5
  lines w0.2: -8.5,7.584 -7.584,8.5 ; -8.5,-8.5 8.5,-8.5 8.5,8.5 -8.5,8.5 -8.5,-8.5
Mechanical 13:
  lines w0.1: -8.5,-8.5 8.5,-8.5 8.5,8.5 -8.5,8.5 -8.5,-8.5
Mechanical 15:
  lines w0.05: -9,-9 9,-9 9,9 -9,9 -9,-9
  lines w0.1: -0.5,0 0.5,0 ; 0,-0.5 0,0.5
3D body: height 1.6, standoff 0.35, extent -8.5,-8.5 8.5,8.5

## DSBGA12 [mm] "DSBGA 12 leads, 4x4, .4 mm pitch"
height 0.6
pads (12):
  round 0.28 smd: A1(-0.6,0.6) A2(-0.2,0.6) A3(0.2,0.6) A4(0.6,0.6) B1(-0.6,0.2) B4(0.6,0.2) C1(-0.6,-0.2) C4(0.6,-0.2) D1(-0.6,-0.6) D2(-0.2,-0.6) D3(0.2,-0.6) D4(0.6,-0.6)
Top Overlay:
  lines w0.2: -0.948,0.798 -0.678,1.05 ; -0.95,-1.05 -0.95,1.05 0.95,1.05 0.95,-1.05 -0.95,-1.05
Mechanical 13:
  lines w0.1: -0.9,-1 -0.9,1 0.9,1 0.9,-1 -0.9,-1
Mechanical 15:
  lines w0.05: -1.1,-1.2 -1.1,1.2 1.1,1.2 1.1,-1.2 -1.1,-1.2
  lines w0.1: -0.5,0 0.5,0 ; 0,-0.5 0,0.5
Mechanical 17:
  text "'.Designator'" at -0.85,-0.05 h0.13
Mechanical 19:
  text "'.Comment'" at -0.6,-0.15 h0.15
3D body "BGA12.step": height 0.6, standoff 0, extent -0.85,-0.95 0.85,0.95

## WLP-9 [mm] "BGA, 9-Leads, Body 1.50x1.50mmx0.64mm, Pitch 0.50mm"
height 0.64
pads (9):
  round 0.26 smd: A1(-0.5,0.5) A2(0,0.5) A3(0.5,0.5) B1(-0.5,0) B2(0,0) B3(0.5,0) C1(-0.5,-0.5) C2(0,-0.5) C3(0.5,-0.5)
Top Overlay:
  circle w0.1: c-0.855,0.855 r0.05
  lines w0.1: -0.75,-0.75 -0.75,0.75 0.75,0.75 0.75,-0.75 -0.75,-0.75
Mechanical 13:
  lines w0.1: -0.75,-0.75 0.75,-0.75 0.75,0.75 -0.75,0.75 -0.75,-0.75
Mechanical 15:
  lines w0.05: -1,-1 1,-1 1,1 -1,1 -1,-1
  lines w0.1: -0.5,0 0.5,0 ; 0,-0.5 0,0.5
Mechanical 17:
  text "'.Designator'" at -3.175,-0.229 h0.64
Mechanical 19:
  text "'.Comment'" at -3.175,-0.229 h0.64
3D body "WLP-.step": height 0.64, standoff 0, extent -0.75,-0.75 0.75,0.75